# Altium integrated library XHP-2.IntLib: 1 symbol
Pins are listed as number, name and electrical type; pins without a type are passive.

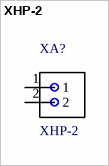
[diagram p0: symbol XHP-2]

## XHP-2
designator XA?
Receptacle Housing; MF: JST Sales; Availability: Unavailable; SnapEDA_Link: https://www.snapeda.com/parts/XHP-2/JST%20Sales%20America%20Inc./view-part/?ref=snap; MP: XHP-2; Price: None; Package: None; Value: *
footprint *JST_XHP-2
pins: 1, 2